# EAGLE library part PISTACK (library fruit-parts)
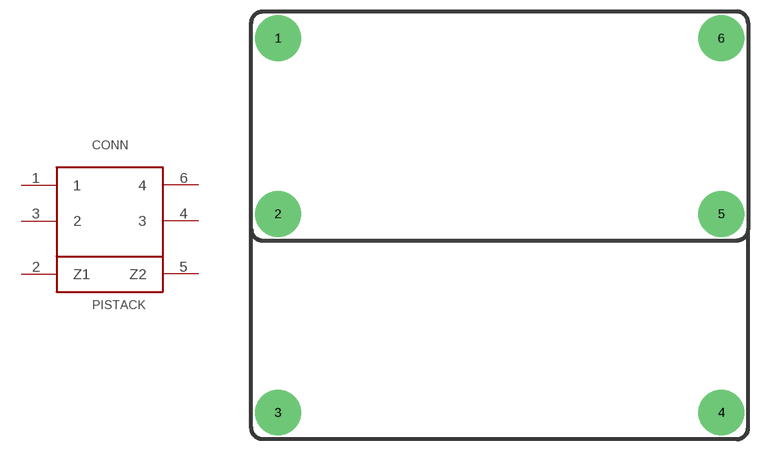
[diagram p0: symbol with the pads of PISTACK; footprint PISTACK]

Designator prefix CONN

## PISTACK  [PISTACK]
1  1
2  Z1
3  2
4  3
5  Z2
6  4

## Footprint PISTACK (pad centres in mm)
drill 2.7 pad 6: 1 -29,24.5; 2 -29,1.5; 3 -29,-24.5; 4 29,-24.5; 5 29,1.5; 6 29,24.5